# EAGLE library part XB3-24Z8UM (library EAF_library)
XB3-24Z8UM Xbee 3 micro module by DIGI international. Based on mechanical drawings in Xbee3 RF Module Hardware Reference Manual (90001543) by Digi Intrnational. Untested. Made by Nikolai Nymo
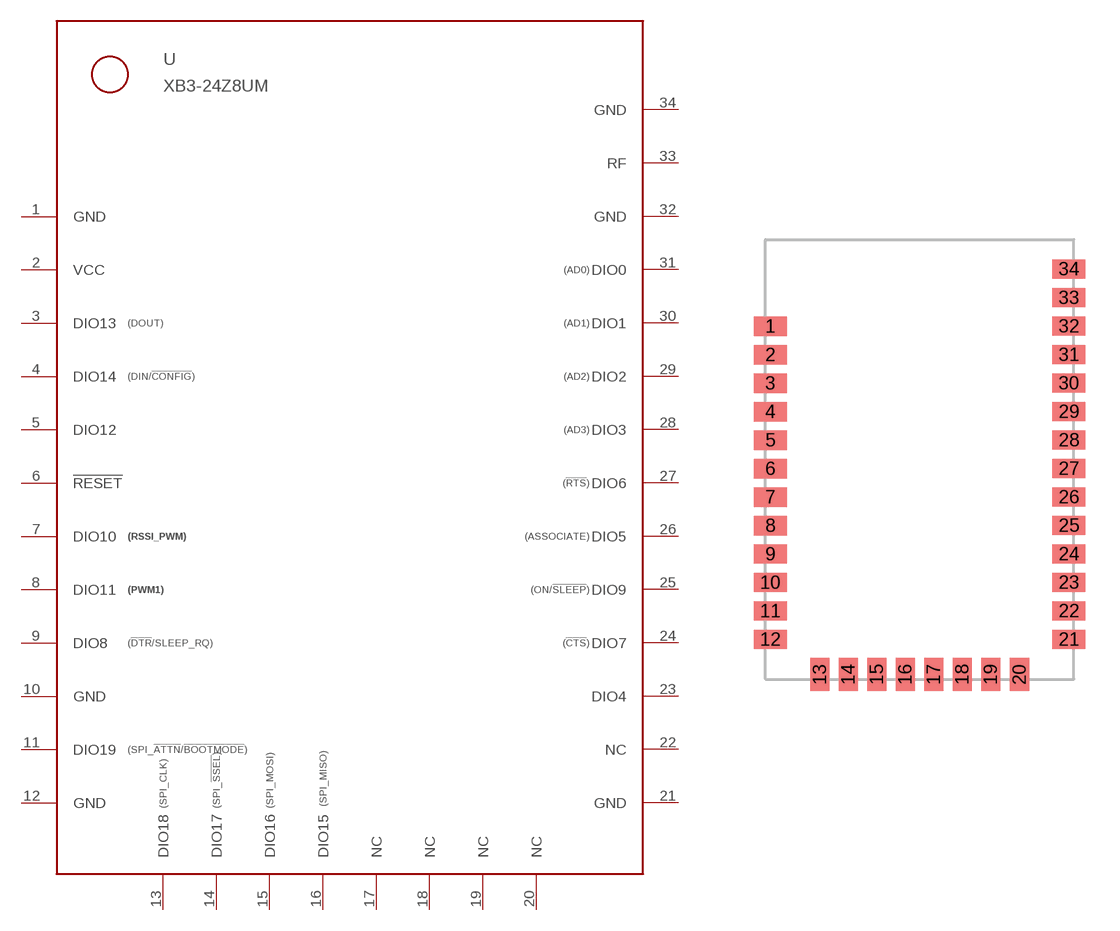
[diagram p1: symbol with the pads of XBEE3_MICRO; footprint XBEE3_MICRO]

Designator prefix -

## XB3-24Z8UMMICRO  [XBEE3_MICRO]
1  GND  pwr
2  VCC  pwr
3  DIO13
4  DIO14
5  DIO12
6  !RESET  in
7  DIO10
8  DIO11
9  DIO8
10  GND  pwr
11  DIO19  out
12  GND  pwr
13  DIO18  in
14  DIO17  in
15  DIO16  in
16  DIO15  out
17  NC  nc
18  NC  nc
19  NC  nc
20  NC  nc
21  GND  pwr
22  NC  nc
23  DIO4
24  DIO7
25  DIO9
26  DIO5
27  DIO6
28  DIO3
29  DIO2
30  DIO1
31  DIO0
32  GND  pwr
33  RF
34  GND  pwr

## Footprint XBEE3_MICRO (pad centres in mm)
Footprint for Xbee3 micro module with U.FL antenna. Based on mechanical drawings in Xbee3 RF Module Hardware Reference Manual (90001543) by Digi Intrnational. Untested. Made by Nikolai Nymo
smd 1.448 x 0.838: 1 0.216,15.494; 2 0.216,14.244; 3 0.216,12.995; 4 0.216,11.745; 5 0.216,10.495; 6 0.216,9.246; 7 0.216,7.996; 8 0.216,6.746; 9 0.216,5.497; 10 0.216,4.247; 11 0.216,2.997; 12 0.216,1.753; 21 13.322,1.753; 22 13.322,3.002; 23 13.322,4.252; 24 13.322,5.502; 25 13.322,6.751; 26 13.322,8.001; 27 13.322,9.251; 28 13.322,10.5; 29 13.322,11.75; 30 13.322,13; 31 13.322,14.249; 32 13.322,15.499; 33 13.322,16.749; 34 13.322,18.009
smd 0.838 x 1.448: 13 2.388,0.216; 14 3.637,0.216; 15 4.887,0.216; 16 6.137,0.216; 17 7.386,0.216; 18 8.636,0.216; 19 9.886,0.216; 20 11.151,0.216